# Altium integrated library Maxim Logic Multiplexer.IntLib: 168 symbols (part 4 of 4)
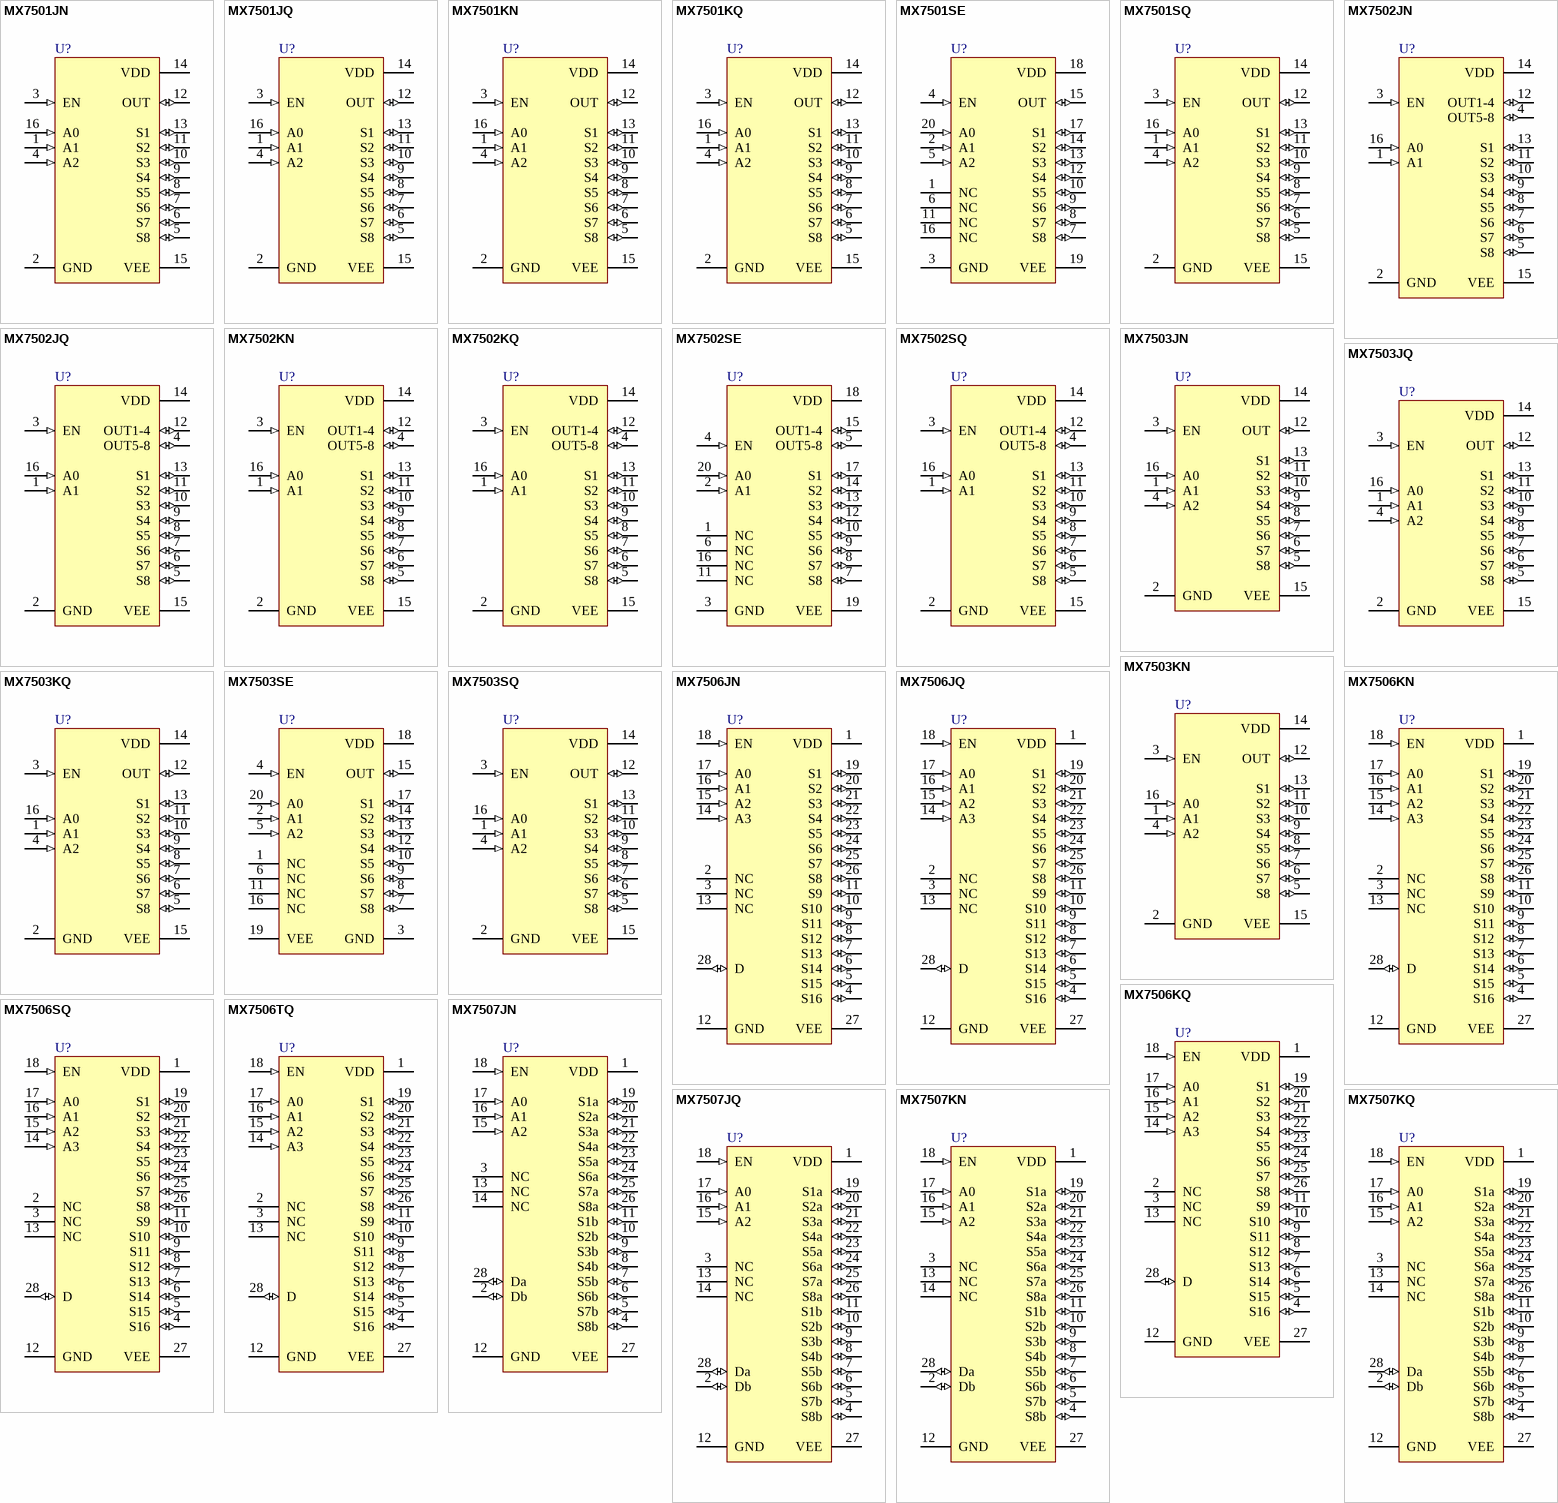
[diagram p9: symbols MX7501JN to MX7507KQ]

## MX7502SQ
designator U?
Low-Power, Monolitic, CMOS Analog Multiplexer; Published: 16-Jan-2001; LatestRevisionDate: 29-May-2009; LatestRevisionNote: Component Body Added.; DatasheetVersion: Jul-1990; PackageVersion: 1996; PackageReference: JE16; Publisher: Altium Limited; PackageDescription: DIP, 16-Pin, Row Spacing 7.62 mm, Pitch 2.54 mm; ComponentLink1Description: Manufacturer Link; ComponentLink1URL: http://www.maxim-ic.com/; ComponentLink2Description: Datasheet; ComponentLink2URL: http://pdfserv.maxim-ic.com/en/ds/MX7501-MX7503.pdf
footprint JE16 (DIP, 16-Leads, Row Spacing 7.62mm, Pitch 2.54mm, Body 20.37x6.73mm)
3D model JE16 (DIP, 16-Pin, Row Spacing 7.62 mm, Pitch 2.54 mm)
pins: 1 A1 (in), 2 GND (power), 3 EN (in), 4 OUT5-8 (io), 5 S8 (io), 6 S7 (io), 7 S6 (io), 8 S5 (io), 9 S4 (io), 10 S3 (io), 11 S2 (io), 12 OUT1-4 (io), 13 S1 (io), 14 VDD (power), 15 VEE (power), 16 A0 (in)

## MX7503JN
designator U?
Low-Power, Monolitic, CMOS Analog Multiplexer; Published: 16-Jan-2001; LatestRevisionDate: 29-May-2009; LatestRevisionNote: Component Body Added.; DatasheetVersion: Jul-1990; PackageVersion: 1997; PackageReference: PE16A; Publisher: Altium Limited; PackageDescription: DIP, 16-Pin, Row Spacing 7.62 mm, Pitch 2.54 mm; Code_JEDEC: MS-001-BB; ComponentLink1Description: Manufacturer Link; ComponentLink1URL: http://www.maxim-ic.com/; ComponentLink2Description: Datasheet; ComponentLink2URL: http://pdfserv.maxim-ic.com/en/ds/MX7501-MX7503.pdf
footprint PE16A (DIP, 16-Leads, Row Spacing 7.62mm, Pitch 2.54mm, Body 19.18x6.99mm)
3D model PE16 (DIP, 16-Pin, Row Spacing 7.62 mm, Pitch 2.54 mm)
pins: 1 A1 (in), 2 GND (power), 3 EN (in), 4 A2 (in), 5 S8 (io), 6 S7 (io), 7 S6 (io), 8 S5 (io), 9 S4 (io), 10 S3 (io), 11 S2 (io), 12 OUT (io), 13 S1 (io), 14 VDD (power), 15 VEE (power), 16 A0 (in)

## MX7503JQ
designator U?
Low-Power, Monolitic, CMOS Analog Multiplexer; Published: 16-Jan-2001; LatestRevisionDate: 29-May-2009; LatestRevisionNote: Component Body Added.; DatasheetVersion: Jul-1990; PackageVersion: 1996; PackageReference: JE16; Publisher: Altium Limited; PackageDescription: DIP, 16-Pin, Row Spacing 7.62 mm, Pitch 2.54 mm; ComponentLink1Description: Manufacturer Link; ComponentLink1URL: http://www.maxim-ic.com/; ComponentLink2Description: Datasheet; ComponentLink2URL: http://pdfserv.maxim-ic.com/en/ds/MX7501-MX7503.pdf
footprint JE16 (DIP, 16-Leads, Row Spacing 7.62mm, Pitch 2.54mm, Body 20.37x6.73mm)
3D model JE16 (DIP, 16-Pin, Row Spacing 7.62 mm, Pitch 2.54 mm)
pins: 1 A1 (in), 2 GND (power), 3 EN (in), 4 A2 (in), 5 S8 (io), 6 S7 (io), 7 S6 (io), 8 S5 (io), 9 S4 (io), 10 S3 (io), 11 S2 (io), 12 OUT (io), 13 S1 (io), 14 VDD (power), 15 VEE (power), 16 A0 (in)

## MX7503KN
designator U?
Low-Power, Monolitic, CMOS Analog Multiplexer; Published: 16-Jan-2001; LatestRevisionDate: 29-May-2009; LatestRevisionNote: Component Body Added.; DatasheetVersion: Jul-1990; PackageVersion: 1997; PackageReference: PE16A; Publisher: Altium Limited; PackageDescription: DIP, 16-Pin, Row Spacing 7.62 mm, Pitch 2.54 mm; Code_JEDEC: MS-001-BB; ComponentLink1Description: Manufacturer Link; ComponentLink1URL: http://www.maxim-ic.com/; ComponentLink2Description: Datasheet; ComponentLink2URL: http://pdfserv.maxim-ic.com/en/ds/MX7501-MX7503.pdf
footprint PE16A (DIP, 16-Leads, Row Spacing 7.62mm, Pitch 2.54mm, Body 19.18x6.99mm)
3D model PE16 (DIP, 16-Pin, Row Spacing 7.62 mm, Pitch 2.54 mm)
pins: 1 A1 (in), 2 GND (power), 3 EN (in), 4 A2 (in), 5 S8 (io), 6 S7 (io), 7 S6 (io), 8 S5 (io), 9 S4 (io), 10 S3 (io), 11 S2 (io), 12 OUT (io), 13 S1 (io), 14 VDD (power), 15 VEE (power), 16 A0 (in)

## MX7503KQ
designator U?
Low-Power, Monolitic, CMOS Analog Multiplexer; Published: 16-Jan-2001; LatestRevisionDate: 29-May-2009; LatestRevisionNote: Component Body Added.; DatasheetVersion: Jul-1990; PackageVersion: 1996; PackageReference: JE16; Publisher: Altium Limited; PackageDescription: DIP, 16-Pin, Row Spacing 7.62 mm, Pitch 2.54 mm; ComponentLink1Description: Manufacturer Link; ComponentLink1URL: http://www.maxim-ic.com/; ComponentLink2Description: Datasheet; ComponentLink2URL: http://pdfserv.maxim-ic.com/en/ds/MX7501-MX7503.pdf
footprint JE16 (DIP, 16-Leads, Row Spacing 7.62mm, Pitch 2.54mm, Body 20.37x6.73mm)
3D model JE16 (DIP, 16-Pin, Row Spacing 7.62 mm, Pitch 2.54 mm)
pins: 1 A1 (in), 2 GND (power), 3 EN (in), 4 A2 (in), 5 S8 (io), 6 S7 (io), 7 S6 (io), 8 S5 (io), 9 S4 (io), 10 S3 (io), 11 S2 (io), 12 OUT (io), 13 S1 (io), 14 VDD (power), 15 VEE (power), 16 A0 (in)

## MX7503SE
designator U?
Low-Power, Monolitic, CMOS Analog Multiplexer; Published: 16-Jan-2001; LatestRevisionDate: 17-Jul-2002; LatestRevisionNote: Re-released for DXP Platform.; DatasheetVersion: Jul-1990; PackageReference: LCC20; Publisher: Altium Limited; PackageDescription: Leadless Chip Carrier; 20 Terminals; Body 8.9 x 8.9 mm; ComponentLink1Description: Manufacturer Link; ComponentLink1URL: http://www.maxim-ic.com/; ComponentLink2Description: Datasheet; ComponentLink2URL: http://pdfserv.maxim-ic.com/en/ds/MX7501-MX7503.pdf
footprint LCC20 (Leadless Chip Carrier; 20 Terminals; Body 8.9 x 8.9 mm)
footprint LCC20_N (Leadless Chip Carrier, 20-Leads, Body 8.9x8.9mm, Pitch 1.27mm, IPC Medium Density)
footprint LCC20_L (Leadless Chip Carrier, 20-Leads, Body 8.9x8.9mm, Pitch 1.27mm, IPC High Density)
footprint LCC20_M (Leadless Chip Carrier, 20-Leads, Body 8.9x8.9mm, Pitch 1.27mm, IPC Low Density)
pins: 1 NC, 2 A1 (in), 3 GND (power), 4 EN (in), 5 A2 (in), 6 NC, 7 S8 (io), 8 S7 (io), 9 S6 (io), 10 S5 (io), 11 NC, 12 S4 (io), 13 S3 (io), 14 S2 (io), 15 OUT (io), 16 NC, 17 S1 (io), 18 VDD (power), 19 VEE (power), 20 A0 (in)

## MX7503SQ
designator U?
Low-Power, Monolitic, CMOS Analog Multiplexer; Published: 16-Jan-2001; LatestRevisionDate: 29-May-2009; LatestRevisionNote: Component Body Added.; DatasheetVersion: Jul-1990; PackageVersion: 1996; PackageReference: JE16; Publisher: Altium Limited; PackageDescription: DIP, 16-Pin, Row Spacing 7.62 mm, Pitch 2.54 mm; ComponentLink1Description: Manufacturer Link; ComponentLink1URL: http://www.maxim-ic.com/; ComponentLink2Description: Datasheet; ComponentLink2URL: http://pdfserv.maxim-ic.com/en/ds/MX7501-MX7503.pdf
footprint JE16 (DIP, 16-Leads, Row Spacing 7.62mm, Pitch 2.54mm, Body 20.37x6.73mm)
3D model JE16 (DIP, 16-Pin, Row Spacing 7.62 mm, Pitch 2.54 mm)
pins: 1 A1 (in), 2 GND (power), 3 EN (in), 4 A2 (in), 5 S8 (io), 6 S7 (io), 7 S6 (io), 8 S5 (io), 9 S4 (io), 10 S3 (io), 11 S2 (io), 12 OUT (io), 13 S1 (io), 14 VDD (power), 15 VEE (power), 16 A0 (in)

## MX7506JN
designator U?
Monolithic CMOS, Analog Multiplexer; Published: 16-Jan-2001; LatestRevisionDate: 29-May-2009; LatestRevisionNote: Component Body Added.; DatasheetVersion: 1989; PackageVersion: 1997; PackageReference: NI28A; Publisher: Altium Limited; PackageDescription: DIP, 28-Pin, Row Spacing 7.62 mm, Pitch 2.54 mm; ComponentLink1Description: Manufacturer Link; ComponentLink1URL: http://www.maxim-ic.com/; ComponentLink2Description: Datasheet; ComponentLink2URL: http://pdfserv.maxim-ic.com/en/ds/MX7506-MX7507.pdf
footprint NI28A (DIP, 28-Leads, Row Spacing 7.62mm, Pitch 2.54mm, Body 34.8x6.99mm)
3D model NI28 (DIP, 28-Pin, Row Spacing 7.62 mm, Pitch 2.54 mm)
pins: 1 VDD (power), 2 NC, 3 NC, 4 S16 (io), 5 S15 (io), 6 S14 (io), 7 S13 (io), 8 S12 (io), 9 S11 (io), 10 S10 (io), 11 S9 (io), 12 GND (power), 13 NC (power), 14 A3 (in), 15 A2 (in), 16 A1 (in), 17 A0 (in), 18 EN (in), 19 S1 (io), 20 S2 (io), 21 S3 (io), 22 S4 (io), 23 S5 (io), 24 S6 (io), 25 S7 (io), 26 S8 (io), 27 VEE (power), 28 D (io)

## MX7506JQ
designator U?
Monolithic CMOS, Analog Multiplexer; Published: 16-Jan-2001; LatestRevisionDate: 29-May-2009; LatestRevisionNote: Component Body Added.; DatasheetVersion: 1989; PackageReference: JI28A; Publisher: Altium Limited; PackageDescription: DIP, 28-Pin, Row Spacing 15.24 mm, Pitch 2.54 mm; ComponentLink1Description: Manufacturer Link; ComponentLink1URL: http://www.maxim-ic.com/; ComponentLink2Description: Datasheet; ComponentLink2URL: http://pdfserv.maxim-ic.com/en/ds/MX7506-MX7507.pdf
footprint JI28A (DIP, 28-Leads, Row Spacing 15.24mm, Pitch 2.54mm, Body 37.15x14.1mm)
3D model JI28 (DIP, 28-Pin, Row Spacing 15.24 mm, Pitch 2.54 mm)
pins: 1 VDD (power), 2 NC, 3 NC, 4 S16 (io), 5 S15 (io), 6 S14 (io), 7 S13 (io), 8 S12 (io), 9 S11 (io), 10 S10 (io), 11 S9 (io), 12 GND (power), 13 NC (power), 14 A3 (in), 15 A2 (in), 16 A1 (in), 17 A0 (in), 18 EN (in), 19 S1 (io), 20 S2 (io), 21 S3 (io), 22 S4 (io), 23 S5 (io), 24 S6 (io), 25 S7 (io), 26 S8 (io), 27 VEE (power), 28 D (io)

## MX7506KN
designator U?
Monolithic CMOS, Analog Multiplexer; Published: 16-Jan-2001; LatestRevisionDate: 29-May-2009; LatestRevisionNote: Component Body Added.; DatasheetVersion: 1989; PackageVersion: 1997; PackageReference: NI28A; Publisher: Altium Limited; PackageDescription: DIP, 28-Pin, Row Spacing 7.62 mm, Pitch 2.54 mm; ComponentLink1Description: Manufacturer Link; ComponentLink1URL: http://www.maxim-ic.com/; ComponentLink2Description: Datasheet; ComponentLink2URL: http://pdfserv.maxim-ic.com/en/ds/MX7506-MX7507.pdf
footprint NI28A (DIP, 28-Leads, Row Spacing 7.62mm, Pitch 2.54mm, Body 34.8x6.99mm)
3D model NI28 (DIP, 28-Pin, Row Spacing 7.62 mm, Pitch 2.54 mm)
pins: 1 VDD (power), 2 NC, 3 NC, 4 S16 (io), 5 S15 (io), 6 S14 (io), 7 S13 (io), 8 S12 (io), 9 S11 (io), 10 S10 (io), 11 S9 (io), 12 GND (power), 13 NC (power), 14 A3 (in), 15 A2 (in), 16 A1 (in), 17 A0 (in), 18 EN (in), 19 S1 (io), 20 S2 (io), 21 S3 (io), 22 S4 (io), 23 S5 (io), 24 S6 (io), 25 S7 (io), 26 S8 (io), 27 VEE (power), 28 D (io)

## MX7506KQ
designator U?
Monolithic CMOS, Analog Multiplexer; Published: 16-Jan-2001; LatestRevisionDate: 29-May-2009; LatestRevisionNote: Component Body Added.; DatasheetVersion: 1989; PackageReference: JI28A; Publisher: Altium Limited; PackageDescription: DIP, 28-Pin, Row Spacing 15.24 mm, Pitch 2.54 mm; ComponentLink1Description: Manufacturer Link; ComponentLink1URL: http://www.maxim-ic.com/; ComponentLink2Description: Datasheet; ComponentLink2URL: http://pdfserv.maxim-ic.com/en/ds/MX7506-MX7507.pdf
footprint JI28A (DIP, 28-Leads, Row Spacing 15.24mm, Pitch 2.54mm, Body 37.15x14.1mm)
3D model JI28 (DIP, 28-Pin, Row Spacing 15.24 mm, Pitch 2.54 mm)
pins: 1 VDD (power), 2 NC, 3 NC, 4 S16 (io), 5 S15 (io), 6 S14 (io), 7 S13 (io), 8 S12 (io), 9 S11 (io), 10 S10 (io), 11 S9 (io), 12 GND (power), 13 NC (power), 14 A3 (in), 15 A2 (in), 16 A1 (in), 17 A0 (in), 18 EN (in), 19 S1 (io), 20 S2 (io), 21 S3 (io), 22 S4 (io), 23 S5 (io), 24 S6 (io), 25 S7 (io), 26 S8 (io), 27 VEE (power), 28 D (io)

## MX7506SQ
designator U?
Monolithic CMOS, Analog Multiplexer; Published: 16-Jan-2001; LatestRevisionDate: 29-May-2009; LatestRevisionNote: Component Body Added.; DatasheetVersion: 1989; PackageReference: JI28A; Publisher: Altium Limited; PackageDescription: DIP, 28-Pin, Row Spacing 15.24 mm, Pitch 2.54 mm; ComponentLink1Description: Manufacturer Link; ComponentLink1URL: http://www.maxim-ic.com/; ComponentLink2Description: Datasheet; ComponentLink2URL: http://pdfserv.maxim-ic.com/en/ds/MX7506-MX7507.pdf
footprint JI28A (DIP, 28-Leads, Row Spacing 15.24mm, Pitch 2.54mm, Body 37.15x14.1mm)
3D model JI28 (DIP, 28-Pin, Row Spacing 15.24 mm, Pitch 2.54 mm)
pins: 1 VDD (power), 2 NC, 3 NC, 4 S16 (io), 5 S15 (io), 6 S14 (io), 7 S13 (io), 8 S12 (io), 9 S11 (io), 10 S10 (io), 11 S9 (io), 12 GND (power), 13 NC (power), 14 A3 (in), 15 A2 (in), 16 A1 (in), 17 A0 (in), 18 EN (in), 19 S1 (io), 20 S2 (io), 21 S3 (io), 22 S4 (io), 23 S5 (io), 24 S6 (io), 25 S7 (io), 26 S8 (io), 27 VEE (power), 28 D (io)

## MX7506TQ
designator U?
Monolithic CMOS, Analog Multiplexer; Published: 16-Jan-2001; LatestRevisionDate: 29-May-2009; LatestRevisionNote: Component Body Added.; DatasheetVersion: 1989; PackageReference: JI28A; Publisher: Altium Limited; PackageDescription: DIP, 28-Pin, Row Spacing 15.24 mm, Pitch 2.54 mm; ComponentLink1Description: Manufacturer Link; ComponentLink1URL: http://www.maxim-ic.com/; ComponentLink2Description: Datasheet; ComponentLink2URL: http://pdfserv.maxim-ic.com/en/ds/MX7506-MX7507.pdf
footprint JI28A (DIP, 28-Leads, Row Spacing 15.24mm, Pitch 2.54mm, Body 37.15x14.1mm)
3D model JI28 (DIP, 28-Pin, Row Spacing 15.24 mm, Pitch 2.54 mm)
pins: 1 VDD (power), 2 NC, 3 NC, 4 S16 (io), 5 S15 (io), 6 S14 (io), 7 S13 (io), 8 S12 (io), 9 S11 (io), 10 S10 (io), 11 S9 (io), 12 GND (power), 13 NC (power), 14 A3 (in), 15 A2 (in), 16 A1 (in), 17 A0 (in), 18 EN (in), 19 S1 (io), 20 S2 (io), 21 S3 (io), 22 S4 (io), 23 S5 (io), 24 S6 (io), 25 S7 (io), 26 S8 (io), 27 VEE (power), 28 D (io)

## MX7507JN
designator U?
Monolithic CMOS, Analog Multiplexer; Published: 16-Jan-2001; LatestRevisionDate: 29-May-2009; LatestRevisionNote: Component Body Added.; DatasheetVersion: 1989; PackageVersion: 1997; PackageReference: NI28A; Publisher: Altium Limited; PackageDescription: DIP, 28-Pin, Row Spacing 7.62 mm, Pitch 2.54 mm; ComponentLink1Description: Manufacturer Link; ComponentLink1URL: http://www.maxim-ic.com/; ComponentLink2Description: Datasheet; ComponentLink2URL: http://pdfserv.maxim-ic.com/en/ds/MX7506-MX7507.pdf
footprint NI28A (DIP, 28-Leads, Row Spacing 7.62mm, Pitch 2.54mm, Body 34.8x6.99mm)
3D model NI28 (DIP, 28-Pin, Row Spacing 7.62 mm, Pitch 2.54 mm)
pins: 1 VDD (power), 2 Db (io), 3 NC, 4 S8b (io), 5 S7b (io), 6 S6b (io), 7 S5b (io), 8 S4b (io), 9 S3b (io), 10 S2b (io), 11 S1b (io), 12 GND (power), 13 NC, 14 NC, 15 A2 (in), 16 A1 (in), 17 A0 (in), 18 EN (in), 19 S1a (io), 20 S2a (io), 21 S3a (io), 22 S4a (io), 23 S5a (io), 24 S6a (io), 25 S7a (io), 26 S8a (io), 27 VEE (power), 28 Da (io)

## MX7507JQ
designator U?
Monolithic CMOS, Analog Multiplexer; Published: 16-Jan-2001; LatestRevisionDate: 29-May-2009; LatestRevisionNote: Component Body Added.; DatasheetVersion: 1989; PackageReference: JI28A; Publisher: Altium Limited; PackageDescription: DIP, 28-Pin, Row Spacing 15.24 mm, Pitch 2.54 mm; ComponentLink1Description: Manufacturer Link; ComponentLink1URL: http://www.maxim-ic.com/; ComponentLink2Description: Datasheet; ComponentLink2URL: http://pdfserv.maxim-ic.com/en/ds/MX7506-MX7507.pdf
footprint JI28A (DIP, 28-Leads, Row Spacing 15.24mm, Pitch 2.54mm, Body 37.15x14.1mm)
3D model JI28 (DIP, 28-Pin, Row Spacing 15.24 mm, Pitch 2.54 mm)
pins: 1 VDD (power), 2 Db (io), 3 NC, 4 S8b (io), 5 S7b (io), 6 S6b (io), 7 S5b (io), 8 S4b (io), 9 S3b (io), 10 S2b (io), 11 S1b (io), 12 GND (power), 13 NC, 14 NC, 15 A2 (in), 16 A1 (in), 17 A0 (in), 18 EN (in), 19 S1a (io), 20 S2a (io), 21 S3a (io), 22 S4a (io), 23 S5a (io), 24 S6a (io), 25 S7a (io), 26 S8a (io), 27 VEE (power), 28 Da (io)

## MX7507KN
designator U?
Monolithic CMOS, Analog Multiplexer; Published: 16-Jan-2001; LatestRevisionDate: 29-May-2009; LatestRevisionNote: Component Body Added.; DatasheetVersion: 1989; PackageVersion: 1997; PackageReference: NI28A; Publisher: Altium Limited; PackageDescription: DIP, 28-Pin, Row Spacing 7.62 mm, Pitch 2.54 mm; ComponentLink1Description: Manufacturer Link; ComponentLink1URL: http://www.maxim-ic.com/; ComponentLink2Description: Datasheet; ComponentLink2URL: http://pdfserv.maxim-ic.com/en/ds/MX7506-MX7507.pdf
footprint NI28A (DIP, 28-Leads, Row Spacing 7.62mm, Pitch 2.54mm, Body 34.8x6.99mm)
3D model NI28 (DIP, 28-Pin, Row Spacing 7.62 mm, Pitch 2.54 mm)
pins: 1 VDD (power), 2 Db (io), 3 NC, 4 S8b (io), 5 S7b (io), 6 S6b (io), 7 S5b (io), 8 S4b (io), 9 S3b (io), 10 S2b (io), 11 S1b (io), 12 GND (power), 13 NC, 14 NC, 15 A2 (in), 16 A1 (in), 17 A0 (in), 18 EN (in), 19 S1a (io), 20 S2a (io), 21 S3a (io), 22 S4a (io), 23 S5a (io), 24 S6a (io), 25 S7a (io), 26 S8a (io), 27 VEE (power), 28 Da (io)

## MX7507KQ
designator U?
Monolithic CMOS, Analog Multiplexer; Published: 16-Jan-2001; LatestRevisionDate: 29-May-2009; LatestRevisionNote: Component Body Added.; DatasheetVersion: 1989; PackageReference: JI28A; Publisher: Altium Limited; PackageDescription: DIP, 28-Pin, Row Spacing 15.24 mm, Pitch 2.54 mm; ComponentLink1Description: Manufacturer Link; ComponentLink1URL: http://www.maxim-ic.com/; ComponentLink2Description: Datasheet; ComponentLink2URL: http://pdfserv.maxim-ic.com/en/ds/MX7506-MX7507.pdf
footprint JI28A (DIP, 28-Leads, Row Spacing 15.24mm, Pitch 2.54mm, Body 37.15x14.1mm)
3D model JI28 (DIP, 28-Pin, Row Spacing 15.24 mm, Pitch 2.54 mm)
pins: 1 VDD (power), 2 Db (io), 3 NC, 4 S8b (io), 5 S7b (io), 6 S6b (io), 7 S5b (io), 8 S4b (io), 9 S3b (io), 10 S2b (io), 11 S1b (io), 12 GND (power), 13 NC, 14 NC, 15 A2 (in), 16 A1 (in), 17 A0 (in), 18 EN (in), 19 S1a (io), 20 S2a (io), 21 S3a (io), 22 S4a (io), 23 S5a (io), 24 S6a (io), 25 S7a (io), 26 S8a (io), 27 VEE (power), 28 Da (io)

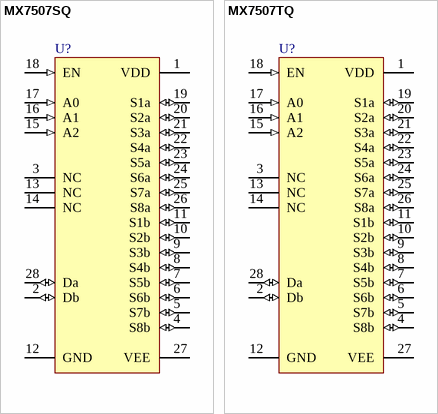
[diagram p6: symbols MX7507SQ to MX7507TQ]

## MX7507SQ
designator U?
Monolithic CMOS, Analog Multiplexer; Published: 16-Jan-2001; LatestRevisionDate: 29-May-2009; LatestRevisionNote: Component Body Added.; DatasheetVersion: 1989; PackageReference: JI28A; Publisher: Altium Limited; PackageDescription: DIP, 28-Pin, Row Spacing 15.24 mm, Pitch 2.54 mm; ComponentLink1Description: Manufacturer Link; ComponentLink1URL: http://www.maxim-ic.com/; ComponentLink2Description: Datasheet; ComponentLink2URL: http://pdfserv.maxim-ic.com/en/ds/MX7506-MX7507.pdf
footprint JI28A (DIP, 28-Leads, Row Spacing 15.24mm, Pitch 2.54mm, Body 37.15x14.1mm)
3D model JI28 (DIP, 28-Pin, Row Spacing 15.24 mm, Pitch 2.54 mm)
pins: 1 VDD (power), 2 Db (io), 3 NC, 4 S8b (io), 5 S7b (io), 6 S6b (io), 7 S5b (io), 8 S4b (io), 9 S3b (io), 10 S2b (io), 11 S1b (io), 12 GND (power), 13 NC, 14 NC, 15 A2 (in), 16 A1 (in), 17 A0 (in), 18 EN (in), 19 S1a (io), 20 S2a (io), 21 S3a (io), 22 S4a (io), 23 S5a (io), 24 S6a (io), 25 S7a (io), 26 S8a (io), 27 VEE (power), 28 Da (io)

## MX7507TQ
designator U?
Monolithic CMOS, Analog Multiplexer; Published: 16-Jan-2001; LatestRevisionDate: 29-May-2009; LatestRevisionNote: Component Body Added.; DatasheetVersion: 1989; PackageReference: JI28A; Publisher: Altium Limited; PackageDescription: DIP, 28-Pin, Row Spacing 15.24 mm, Pitch 2.54 mm; ComponentLink1Description: Manufacturer Link; ComponentLink1URL: http://www.maxim-ic.com/; ComponentLink2Description: Datasheet; ComponentLink2URL: http://pdfserv.maxim-ic.com/en/ds/MX7506-MX7507.pdf
footprint JI28A (DIP, 28-Leads, Row Spacing 15.24mm, Pitch 2.54mm, Body 37.15x14.1mm)
3D model JI28 (DIP, 28-Pin, Row Spacing 15.24 mm, Pitch 2.54 mm)
pins: 1 VDD (power), 2 Db (io), 3 NC, 4 S8b (io), 5 S7b (io), 6 S6b (io), 7 S5b (io), 8 S4b (io), 9 S3b (io), 10 S2b (io), 11 S1b (io), 12 GND (power), 13 NC, 14 NC, 15 A2 (in), 16 A1 (in), 17 A0 (in), 18 EN (in), 19 S1a (io), 20 S2a (io), 21 S3a (io), 22 S4a (io), 23 S5a (io), 24 S6a (io), 25 S7a (io), 26 S8a (io), 27 VEE (power), 28 Da (io)